# Altium footprint library AMP Footprints.PcbLib: 903 footprints (part 26 of 58)
Each footprint in its own frame and in the unit in brackets; x right, y up, seen from the top. Pads: shape width x height; smd on the part's side, far side on the other; paste and mask are expansions set on the pad; w line width, h text height; cw(c..) or ccw(c..) is an arc to the next point about the centre after c.
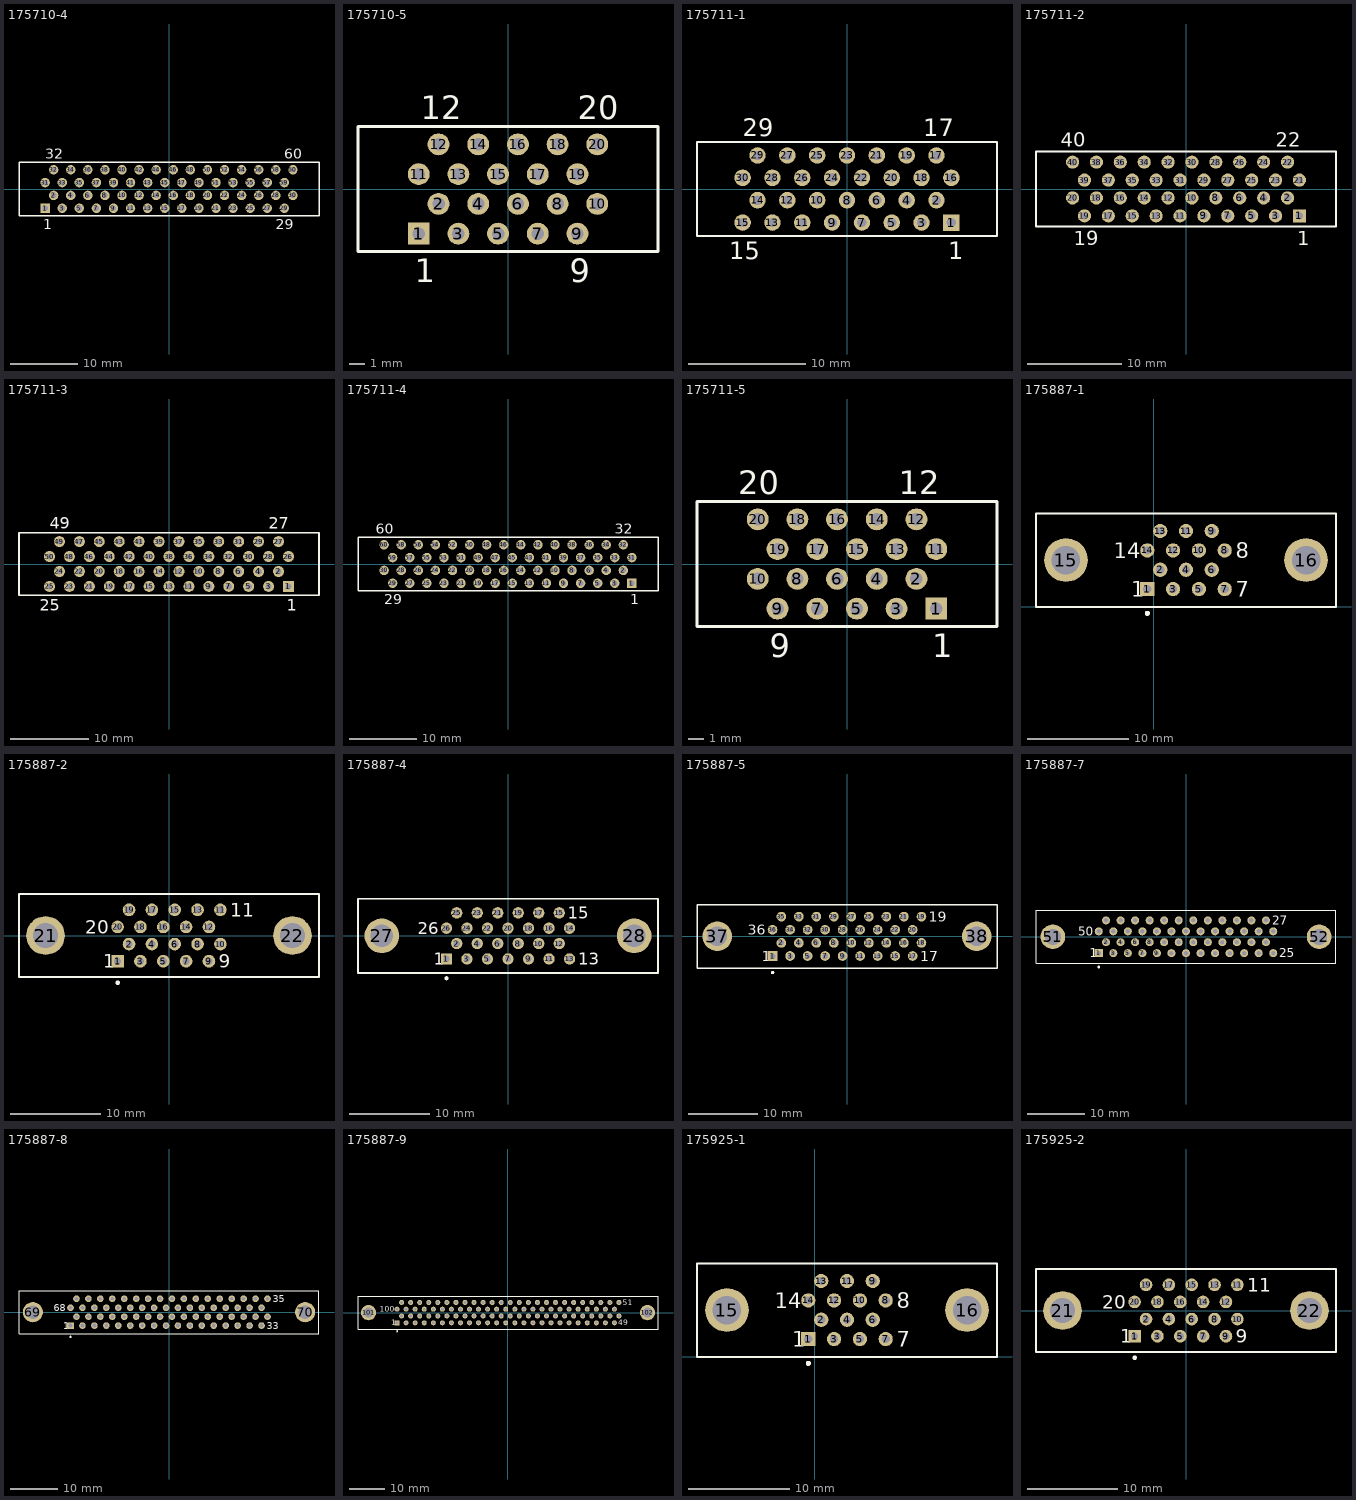
[diagram p25: the footprints below, top view; thin cyan lines are the x and y axes]

## 175710-4 [mm] "Connector; D Subminiature 050 Series; 60 Position; Vertical"
height 7.9
pads (60):
  rect 1.4x1.4 hole 0.8: 1(-18.415,-2.857)
  round 1.4 hole 0.8: 2(-17.145,-0.953) 3(-15.875,-2.857) 4(-14.605,-0.953) 5(-13.335,-2.857) 6(-12.065,-0.953) 7(-10.795,-2.857) 8(-9.525,-0.953) 9(-8.255,-2.857) 10(-6.985,-0.953) 11(-5.715,-2.857) 12(-4.445,-0.953) 13(-3.175,-2.857) 14(-1.905,-0.953) 15(-0.635,-2.857) 16(0.635,-0.953) 17(1.905,-2.857) 18(3.175,-0.953) 19(4.445,-2.857) 20(5.715,-0.953) 21(6.985,-2.857) 22(8.255,-0.953) 23(9.525,-2.857) 24(10.795,-0.953) 25(12.065,-2.857) 26(13.335,-0.953) 27(14.605,-2.857) 28(15.875,-0.953) 29(17.145,-2.857) 30(18.415,-0.953) 31(-18.415,0.953) 32(-17.145,2.857) 33(-15.875,0.953) 34(-14.605,2.857) 35(-13.335,0.953) 36(-12.065,2.857) 37(-10.795,0.953) 38(-9.525,2.857) 39(-8.255,0.953) 40(-6.985,2.857) 41(-5.715,0.953) 42(-4.445,2.857) 43(-3.175,0.953) 44(-1.905,2.857) 45(-0.635,0.953) 46(0.635,2.857) 47(1.905,0.953) 48(3.175,2.857) 49(4.445,0.953) 50(5.715,2.857) 51(6.985,0.953) 52(8.255,2.857) 53(9.525,0.953) 54(10.795,2.857) 55(12.065,0.953) 56(13.335,2.857) 57(14.605,0.953) 58(15.875,2.857) 59(17.145,0.953) 60(18.415,2.857)
Top Overlay:
  lines w0.2: -22.3,-4 22.3,-4 22.3,4 -22.3,4 -22.3,-4
  text "60" at 17.165,4.475 h1.5
  text "32" at -18.395,4.475 h1.5
  text "29" at 15.895,-5.975 h1.5
  text "1" at -18.665,-5.975 h1.5

## 175710-5 [mm] "Connector; D Subminiature 050 Series; 20 Position; Vertical"
height 7.9
pads (20):
  rect 1.4x1.4 hole 0.8: 1(-5.715,-2.857)
  round 1.4 hole 0.8: 2(-4.445,-0.953) 3(-3.175,-2.857) 4(-1.905,-0.953) 5(-0.635,-2.857) 6(0.635,-0.953) 7(1.905,-2.857) 8(3.175,-0.953) 9(4.445,-2.857) 10(5.715,-0.953) 11(-5.715,0.953) 12(-4.445,2.857) 13(-3.175,0.953) 14(-1.905,2.857) 15(-0.635,0.953) 16(0.635,2.857) 17(1.905,0.953) 18(3.175,2.857) 19(4.445,0.953) 20(5.715,2.857)
Top Overlay:
  lines w0.2: -9.6,-4 -9.6,4 9.6,4 9.6,-4 -9.6,-4
  text "1" at -5.965,-5.975 h1.5
  text "9" at 3.945,-5.975 h1.5
  text "12" at -5.57,4.475 h1.5
  text "20" at 4.465,4.475 h1.5

## 175711-1 [mm] "Connector; D Subminiature 050 Series; 30 Position; Vertical"
height 9.5
pads (30):
  rect 1.4x1.4 hole 0.8: 1(8.89,-2.857)
  round 1.4 hole 0.8: 2(7.62,-0.953) 3(6.35,-2.857) 4(5.08,-0.953) 5(3.81,-2.857) 6(2.54,-0.953) 7(1.27,-2.857) 8(0,-0.953) 9(-1.27,-2.857) 10(-2.54,-0.953) 11(-3.81,-2.857) 12(-5.08,-0.953) 13(-6.35,-2.857) 14(-7.62,-0.953) 15(-8.89,-2.857) 16(8.89,0.953) 17(7.62,2.857) 18(6.35,0.953) 19(5.08,2.857) 20(3.81,0.953) 21(2.54,2.857) 22(1.27,0.953) 23(0,2.857) 24(-1.27,0.953) 25(-2.54,2.857) 26(-3.81,0.953) 27(-5.08,2.857) 28(-6.35,0.953) 29(-7.62,2.857) 30(-8.89,0.953)
Top Overlay:
  lines w0.2: -12.775,-4 -12.775,4 12.775,4 12.775,-4 -12.775,-4
  text "1" at 8.64,-5.975 h1.5
  text "15" at -10.015,-5.975 h1.5
  text "17" at 6.495,4.475 h1.5
  text "29" at -8.87,4.475 h1.5

## 175711-2 [mm] "Connector; D Subminiature 050 Series; 40 Position; Vertical"
height 9.5
pads (40):
  rect 1.4x1.4 hole 0.8: 1(12.065,-2.857)
  round 1.4 hole 0.8: 2(10.795,-0.953) 3(9.525,-2.857) 4(8.255,-0.953) 5(6.985,-2.857) 6(5.715,-0.953) 7(4.445,-2.857) 8(3.175,-0.953) 9(1.905,-2.857) 10(0.635,-0.953) 11(-0.635,-2.857) 12(-1.905,-0.953) 13(-3.175,-2.857) 14(-4.445,-0.953) 15(-5.715,-2.857) 16(-6.985,-0.953) 17(-8.255,-2.857) 18(-9.525,-0.953) 19(-10.795,-2.857) 20(-12.065,-0.953) 21(12.065,0.953) 22(10.795,2.857) 23(9.525,0.953) 24(8.255,2.857) 25(6.985,0.953) 26(5.715,2.857) 27(4.445,0.953) 28(3.175,2.857) 29(1.905,0.953) 30(0.635,2.857) 31(-0.635,0.953) 32(-1.905,2.857) 33(-3.175,0.953) 34(-4.445,2.857) 35(-5.715,0.953) 36(-6.985,2.857) 37(-8.255,0.953) 38(-9.525,2.857) 39(-10.795,0.953) 40(-12.065,2.857)
Top Overlay:
  lines w0.2: -15.95,-4 15.95,-4 15.95,4 -15.95,4 -15.95,-4
  text "22" at 9.545,4.475 h1.5
  text "40" at -13.315,4.475 h1.5
  text "19" at -11.92,-5.975 h1.5
  text "1" at 11.815,-5.975 h1.5

## 175711-3 [mm] "Connector; D Subminiature 050 Series; 50 Position; Vertical"
height 9.5
pads (50):
  rect 1.4x1.4 hole 0.8: 1(15.24,-2.857)
  round 1.4 hole 0.8: 2(13.97,-0.953) 3(12.7,-2.857) 4(11.43,-0.953) 5(10.16,-2.857) 6(8.89,-0.953) 7(7.62,-2.857) 8(6.35,-0.953) 9(5.08,-2.857) 10(3.81,-0.953) 11(2.54,-2.857) 12(1.27,-0.953) 13(0,-2.857) 14(-1.27,-0.953) 15(-2.54,-2.857) 16(-3.81,-0.953) 17(-5.08,-2.857) 18(-6.35,-0.953) 19(-7.62,-2.857) 20(-8.89,-0.953) 21(-10.16,-2.857) 22(-11.43,-0.953) 23(-12.7,-2.857) 24(-13.97,-0.953) 25(-15.24,-2.857) 26(15.24,0.953) 27(13.97,2.857) 28(12.7,0.953) 29(11.43,2.857) 30(10.16,0.953) 31(8.89,2.857) 32(7.62,0.953) 33(6.35,2.857) 34(5.08,0.953) 35(3.81,2.857) 36(2.54,0.953) 37(1.27,2.857) 38(0,0.953) 39(-1.27,2.857) 40(-2.54,0.953) 41(-3.81,2.857) 42(-5.08,0.953) 43(-6.35,2.857) 44(-7.62,0.953) 45(-8.89,2.857) 46(-10.16,0.953) 47(-11.43,2.857) 48(-12.7,0.953) 49(-13.97,2.857) 50(-15.24,0.953)
Top Overlay:
  lines w0.2: -19.13,-4 19.13,-4 19.13,4 -19.13,4 -19.13,-4
  text "27" at 12.72,4.475 h1.5
  text "49" at -15.22,4.475 h1.5
  text "25" at -16.49,-5.975 h1.5
  text "1" at 14.99,-5.975 h1.5

## 175711-4 [mm] "Connector; D Subminiature 050 Series; 60 Position; Vertical"
height 9.5
pads (60):
  rect 1.4x1.4 hole 0.8: 1(18.415,-2.857)
  round 1.4 hole 0.8: 2(17.145,-0.953) 3(15.875,-2.857) 4(14.605,-0.953) 5(13.335,-2.857) 6(12.065,-0.953) 7(10.795,-2.857) 8(9.525,-0.953) 9(8.255,-2.857) 10(6.985,-0.953) 11(5.715,-2.857) 12(4.445,-0.953) 13(3.175,-2.857) 14(1.905,-0.953) 15(0.635,-2.857) 16(-0.635,-0.953) 17(-1.905,-2.857) 18(-3.175,-0.953) 19(-4.445,-2.857) 20(-5.715,-0.953) 21(-6.985,-2.857) 22(-8.255,-0.953) 23(-9.525,-2.857) 24(-10.795,-0.953) 25(-12.065,-2.857) 26(-13.335,-0.953) 27(-14.605,-2.857) 28(-15.875,-0.953) 29(-17.145,-2.857) 30(-18.415,-0.953) 31(18.415,0.953) 32(17.145,2.857) 33(15.875,0.953) 34(14.605,2.857) 35(13.335,0.953) 36(12.065,2.857) 37(10.795,0.953) 38(9.525,2.857) 39(8.255,0.953) 40(6.985,2.857) 41(5.715,0.953) 42(4.445,2.857) 43(3.175,0.953) 44(1.905,2.857) 45(0.635,0.953) 46(-0.635,2.857) 47(-1.905,0.953) 48(-3.175,2.857) 49(-4.445,0.953) 50(-5.715,2.857) 51(-6.985,0.953) 52(-8.255,2.857) 53(-9.525,0.953) 54(-10.795,2.857) 55(-12.065,0.953) 56(-13.335,2.857) 57(-14.605,0.953) 58(-15.875,2.857) 59(-17.145,0.953) 60(-18.415,2.857)
Top Overlay:
  lines w0.2: -22.3,-4 -22.3,4 22.3,4 22.3,-4 -22.3,-4
  text "32" at 15.895,4.475 h1.5
  text "29" at -18.395,-5.975 h1.5
  text "1" at 18.165,-5.975 h1.5
  text "60" at -19.665,4.475 h1.5

## 175711-5 [mm] "Connector; D Subminiature 050 Series; 20 Position; Vertical"
height 9.5
pads (20):
  rect 1.4x1.4 hole 0.8: 1(5.715,-2.857)
  round 1.4 hole 0.8: 2(4.445,-0.953) 3(3.175,-2.857) 4(1.905,-0.953) 5(0.635,-2.857) 6(-0.635,-0.953) 7(-1.905,-2.857) 8(-3.175,-0.953) 9(-4.445,-2.857) 10(-5.715,-0.953) 11(5.715,0.953) 12(4.445,2.857) 13(3.175,0.953) 14(1.905,2.857) 15(0.635,0.953) 16(-0.635,2.857) 17(-1.905,0.953) 18(-3.175,2.857) 19(-4.445,0.953) 20(-5.715,2.857)
Top Overlay:
  lines w0.2: -9.6,-4 -9.6,4 9.6,4 9.6,-4 -9.6,-4
  text "9" at -4.945,-5.975 h1.5
  text "1" at 5.465,-5.975 h1.5
  text "12" at 3.32,4.475 h1.5
  text "20" at -6.965,4.475 h1.5

## 175887-1 [mm] "Connector; CHAMP Miniature Ribbon 050 Series II; 14 Position; Vertical"
height 11.1
pads (16):
  rect 1.4x1.4 hole 0.8: 1(-0.633,1.743)
  round 1.4 hole 0.8: 2(0.637,3.648) 3(1.907,1.743) 4(3.177,3.648) 5(4.447,1.743) 6(5.717,3.648) 7(6.987,1.743) 8(6.987,5.553) 9(5.717,7.458) 10(4.447,5.553) 11(3.177,7.458) 12(1.907,5.553) 13(0.637,7.458) 14(-0.633,5.553)
  round 4.3 hole 2.8: 15(-8.643,4.6) 16(14.997,4.6)
Top Overlay:
  circle w0.25: c-0.633,-0.65 r0.125
  lines w0.2: -11.593,0 -11.593,9.2 17.947,9.2 17.947,0 -11.593,0
  text "8" at 8.062,4.802 h1.5
  text "14" at -3.958,4.802 h1.5
  text "7" at 8.062,0.992 h1.5
  text "1" at -2.208,0.992 h1.5

## 175887-2 [mm] "Connector; CHAMP Miniature Ribbon 050 Series II; 20 Position; Vertical"
height 11.1
pads (22):
  rect 1.4x1.4 hole 0.8: 1(-5.715,-2.857)
  round 1.4 hole 0.8: 2(-4.445,-0.953) 3(-3.175,-2.857) 4(-1.905,-0.953) 5(-0.635,-2.857) 6(0.635,-0.953) 7(1.905,-2.857) 8(3.175,-0.953) 9(4.445,-2.857) 10(5.715,-0.953) 11(5.715,2.857) 12(4.445,0.953) 13(3.175,2.857) 14(1.905,0.953) 15(0.635,2.857) 16(-0.635,0.953) 17(-1.905,2.857) 18(-3.175,0.953) 19(-4.445,2.857) 20(-5.715,0.953)
  round 4.3 hole 2.8: 21(-13.725,0) 22(13.725,0)
Top Overlay:
  circle w0.25: c-5.715,-5.25 r0.125
  lines w0.2: -16.675,-4.6 -16.675,4.6 16.675,4.6 16.675,-4.6 -16.675,-4.6
  text "1" at -7.29,-3.608 h1.5
  text "11" at 6.79,2.107 h1.5
  text "20" at -9.29,0.202 h1.5
  text "9" at 5.52,-3.608 h1.5

## 175887-4 [mm] "Connector; CHAMP Miniature Ribbon 050 Series II; 26 Position; Vertical"
height 11.1
pads (28):
  rect 1.4x1.4 hole 0.8: 1(-7.62,-2.857)
  round 1.4 hole 0.8: 2(-6.35,-0.953) 3(-5.08,-2.857) 4(-3.81,-0.953) 5(-2.54,-2.857) 6(-1.27,-0.953) 7(0,-2.857) 8(1.27,-0.953) 9(2.54,-2.857) 10(3.81,-0.953) 11(5.08,-2.857) 12(6.35,-0.953) 13(7.62,-2.857) 14(7.62,0.953) 15(6.35,2.857) 16(5.08,0.953) 17(3.81,2.857) 18(2.54,0.953) 19(1.27,2.857) 20(0,0.953) 21(-1.27,2.857) 22(-2.54,0.953) 23(-3.81,2.857) 24(-5.08,0.953) 25(-6.35,2.857) 26(-7.62,0.953)
  round 4.3 hole 2.8: 27(-15.63,0) 28(15.63,0)
Top Overlay:
  circle w0.25: c-7.62,-5.25 r0.125
  lines w0.2: -18.58,-4.6 -18.58,4.6 18.58,4.6 18.58,-4.6 -18.58,-4.6
  text "1" at -9.195,-3.608 h1.5
  text "13" at 8.695,-3.608 h1.5
  text "26" at -11.195,0.202 h1.5
  text "15" at 7.425,2.107 h1.5

## 175887-5 [mm] "Connector; CHAMP Miniature Ribbon 050 Series II; 36 Position; Vertical"
height 11.1
pads (38):
  rect 1.4x1.4 hole 0.8: 1(-10.795,-2.857)
  round 1.4 hole 0.8: 2(-9.525,-0.953) 3(-8.255,-2.857) 4(-6.985,-0.953) 5(-5.715,-2.857) 6(-4.445,-0.953) 7(-3.175,-2.857) 8(-1.905,-0.953) 9(-0.635,-2.857) 10(0.635,-0.953) 11(1.905,-2.857) 12(3.175,-0.953) 13(4.445,-2.857) 14(5.715,-0.953) 15(6.985,-2.857) 16(8.255,-0.953) 17(9.525,-2.857) 18(10.795,-0.953) 19(10.795,2.857) 20(9.525,0.953) 21(8.255,2.857) 22(6.985,0.953) 23(5.715,2.857) 24(4.445,0.953) 25(3.175,2.857) 26(1.905,0.953) 27(0.635,2.857) 28(-0.635,0.953) 29(-1.905,2.857) 30(-3.175,0.953) 31(-4.445,2.857) 32(-5.715,0.953) 33(-6.985,2.857) 34(-8.255,0.953) 35(-9.525,2.857) 36(-10.795,0.953)
  round 4.3 hole 2.8: 37(-18.805,0) 38(18.805,0)
Top Overlay:
  circle w0.25: c-10.795,-5.25 r0.125
  lines w0.2: -21.755,-4.6 21.755,-4.6 21.755,4.6 -21.755,4.6 -21.755,-4.6
  text "19" at 11.87,2.107 h1.5
  text "36" at -14.37,0.202 h1.5
  text "17" at 10.6,-3.608 h1.5
  text "1" at -12.37,-3.608 h1.5

## 175887-7 [mm] "Connector; CHAMP Miniature Ribbon 050 Series II; 50 Position; Vertical"
height 11.1
pads (52):
  rect 1.4x1.4 hole 0.8: 1(-15.24,-2.857)
  round 1.4 hole 0.8: 2(-13.97,-0.953) 3(-12.7,-2.857) 4(-11.43,-0.953) 5(-10.16,-2.857) 6(-8.89,-0.953) 7(-7.62,-2.857) 8(-6.35,-0.953) 9(-5.08,-2.857) 10(-3.81,-0.953) 11(-2.54,-2.857) 12(-1.27,-0.953) 13(0,-2.857) 14(1.27,-0.953) 15(2.54,-2.857) 16(3.81,-0.953) 17(5.08,-2.857) 18(6.35,-0.953) 19(7.62,-2.857) 20(8.89,-0.953) 21(10.16,-2.857) 22(11.43,-0.953) 23(12.7,-2.857) 24(13.97,-0.953) 25(15.24,-2.857) 26(15.24,0.953) 27(13.97,2.857) 28(12.7,0.953) 29(11.43,2.857) 30(10.16,0.953) 31(8.89,2.857) 32(7.62,0.953) 33(6.35,2.857) 34(5.08,0.953) 35(3.81,2.857) 36(2.54,0.953) 37(1.27,2.857) 38(0,0.953) 39(-1.27,2.857) 40(-2.54,0.953) 41(-3.81,2.857) 42(-5.08,0.953) 43(-6.35,2.857) 44(-7.62,0.953) 45(-8.89,2.857) 46(-10.16,0.953) 47(-11.43,2.857) 48(-12.7,0.953) 49(-13.97,2.857) 50(-15.24,0.953)
  round 4.3 hole 2.8: 51(-23.25,0) 52(23.25,0)
Top Overlay:
  circle w0.25: c-15.24,-5.25 r0.125
  lines w0.2: -26.2,-4.6 26.2,-4.6 26.2,4.6 -26.2,4.6 -26.2,-4.6
  text "25" at 16.315,-3.608 h1.5
  text "50" at -18.815,0.202 h1.5
  text "27" at 15.045,2.107 h1.5
  text "1" at -16.815,-3.608 h1.5

## 175887-8 [mm] "Connector; CHAMP Miniature Ribbon 050 Series II; 68 Position; Vertical"
height 11.1
pads (70):
  rect 1.4x1.4 hole 0.8: 1(-20.955,-2.857)
  round 1.4 hole 0.8: 2(-19.685,-0.953) 3(-18.415,-2.857) 4(-17.145,-0.953) 5(-15.875,-2.857) 6(-14.605,-0.953) 7(-13.335,-2.857) 8(-12.065,-0.953) 9(-10.795,-2.857) 10(-9.525,-0.953) 11(-8.255,-2.857) 12(-6.985,-0.953) 13(-5.715,-2.857) 14(-4.445,-0.953) 15(-3.175,-2.857) 16(-1.905,-0.953) 17(-0.635,-2.857) 18(0.635,-0.953) 19(1.905,-2.857) 20(3.175,-0.953) 21(4.445,-2.857) 22(5.715,-0.953) 23(6.985,-2.857) 24(8.255,-0.953) 25(9.525,-2.857) 26(10.795,-0.953) 27(12.065,-2.857) 28(13.335,-0.953) 29(14.605,-2.857) 30(15.875,-0.953) 31(17.145,-2.857) 32(18.415,-0.953) 33(19.685,-2.857) 34(20.955,-0.953) 35(20.955,2.857) 36(19.685,0.953) 37(18.415,2.857) 38(17.145,0.953) 39(15.875,2.857) 40(14.605,0.953) 41(13.335,2.857) 42(12.065,0.953) 43(10.795,2.857) 44(9.525,0.953) 45(8.255,2.857) 46(6.985,0.953) 47(5.715,2.857) 48(4.445,0.953) 49(3.175,2.857) 50(1.905,0.953) 51(0.635,2.857) 52(-0.635,0.953) 53(-1.905,2.857) 54(-3.175,0.953) 55(-4.445,2.857) 56(-5.715,0.953) 57(-6.985,2.857) 58(-8.255,0.953) 59(-9.525,2.857) 60(-10.795,0.953) 61(-12.065,2.857) 62(-13.335,0.953) 63(-14.605,2.857) 64(-15.875,0.953) 65(-17.145,2.857) 66(-18.415,0.953) 67(-19.685,2.857) 68(-20.955,0.953)
  round 4.3 hole 2.8: 69(-28.965,0) 70(28.965,0)
Top Overlay:
  circle w0.25: c-20.955,-5.25 r0.125
  lines w0.2: -31.915,-4.6 31.915,-4.6 31.915,4.6 -31.915,4.6 -31.915,-4.6
  text "1" at -22.53,-3.608 h1.5
  text "33" at 20.76,-3.608 h1.5
  text "68" at -24.53,0.202 h1.5
  text "35" at 22.03,2.107 h1.5

## 175887-9 [mm] "Connector; CHAMP Miniature Ribbon 050 Series II; 100 Position; Vertical"
height 11.1
pads (102):
  rect 1.4x1.4 hole 0.8: 1(-31.115,-2.857)
  round 1.4 hole 0.8: 2(-29.845,-0.953) 3(-28.575,-2.857) 4(-27.305,-0.953) 5(-26.035,-2.857) 6(-24.765,-0.953) 7(-23.495,-2.857) 8(-22.225,-0.953) 9(-20.955,-2.857) 10(-19.685,-0.953) 11(-18.415,-2.857) 12(-17.145,-0.953) 13(-15.875,-2.857) 14(-14.605,-0.953) 15(-13.335,-2.857) 16(-12.065,-0.953) 17(-10.795,-2.857) 18(-9.525,-0.953) 19(-8.255,-2.857) 20(-6.985,-0.953) 21(-5.715,-2.857) 22(-4.445,-0.953) 23(-3.175,-2.857) 24(-1.905,-0.953) 25(-0.635,-2.857) 26(0.635,-0.953) 27(1.905,-2.857) 28(3.175,-0.953) 29(4.445,-2.857) 30(5.715,-0.953) 31(6.985,-2.857) 32(8.255,-0.953) 33(9.525,-2.857) 34(10.795,-0.953) 35(12.065,-2.857) 36(13.335,-0.953) 37(14.605,-2.857) 38(15.875,-0.953) 39(17.145,-2.857) 40(18.415,-0.953) 41(19.685,-2.857) 42(20.955,-0.953) 43(22.225,-2.857) 44(23.495,-0.953) 45(24.765,-2.857) 46(26.035,-0.953) 47(27.305,-2.857) 48(28.575,-0.953) 49(29.845,-2.857) 50(31.115,-0.953) 51(31.115,2.857) 52(29.845,0.953) 53(28.575,2.857) 54(27.305,0.953) 55(26.035,2.857) 56(24.765,0.953) 57(23.495,2.857) 58(22.225,0.953) 59(20.955,2.857) 60(19.685,0.953) 61(18.415,2.857) 62(17.145,0.953) 63(15.875,2.857) 64(14.605,0.953) 65(13.335,2.857) 66(12.065,0.953) 67(10.795,2.857) 68(9.525,0.953) 69(8.255,2.857) 70(6.985,0.953) 71(5.715,2.857) 72(4.445,0.953) 73(3.175,2.857) 74(1.905,0.953) 75(0.635,2.857) 76(-0.635,0.953) 77(-1.905,2.857) 78(-3.175,0.953) 79(-4.445,2.857) 80(-5.715,0.953) 81(-6.985,2.857) 82(-8.255,0.953) 83(-9.525,2.857) 84(-10.795,0.953) 85(-12.065,2.857) 86(-13.335,0.953) 87(-14.605,2.857) 88(-15.875,0.953) 89(-17.145,2.857) 90(-18.415,0.953) 91(-19.685,2.857) 92(-20.955,0.953) 93(-22.225,2.857) 94(-23.495,0.953) 95(-24.765,2.857) 96(-26.035,0.953) 97(-27.305,2.857) 98(-28.575,0.953) 99(-29.845,2.857) 100(-31.115,0.953)
  round 4.3 hole 2.8: 101(-39.125,0) 102(39.125,0)
Top Overlay:
  circle w0.25: c-31.115,-5.25 r0.125
  lines w0.2: -42.075,-4.6 42.075,-4.6 42.075,4.6 -42.075,4.6 -42.075,-4.6
  text "51" at 32.19,2.107 h1.5
  text "49" at 30.92,-3.608 h1.5
  text "1" at -32.69,-3.608 h1.5
  text "100" at -35.94,0.202 h1.5

## 175925-1 [mm] "Connector; CHAMP Miniature Ribbon 050 Series II; 14 Position; Vertical"
height 11.1
pads (16):
  rect 1.4x1.4 hole 0.8: 1(-0.633,1.743)
  round 1.4 hole 0.8: 2(0.637,3.648) 3(1.907,1.743) 4(3.177,3.648) 5(4.447,1.743) 6(5.717,3.648) 7(6.987,1.743) 8(6.987,5.553) 9(5.717,7.458) 10(4.447,5.553) 11(3.177,7.458) 12(1.907,5.553) 13(0.637,7.458) 14(-0.633,5.553)
  round 4.3 hole 2.8: 15(-8.643,4.6) 16(14.997,4.6)
Top Overlay:
  circle w0.25: c-0.633,-0.65 r0.125
  lines w0.2: -11.593,0 -11.593,9.2 17.947,9.2 17.947,0 -11.593,0
  text "8" at 8.062,4.802 h1.5
  text "14" at -3.958,4.802 h1.5
  text "7" at 8.062,0.992 h1.5
  text "1" at -2.208,0.992 h1.5

## 175925-2 [mm] "Connector; CHAMP Miniature Ribbon 050 Series II; 20 Position; Vertical"
height 11.1
pads (22):
  rect 1.4x1.4 hole 0.8: 1(-5.715,-2.857)
  round 1.4 hole 0.8: 2(-4.445,-0.953) 3(-3.175,-2.857) 4(-1.905,-0.953) 5(-0.635,-2.857) 6(0.635,-0.953) 7(1.905,-2.857) 8(3.175,-0.953) 9(4.445,-2.857) 10(5.715,-0.953) 11(5.715,2.857) 12(4.445,0.953) 13(3.175,2.857) 14(1.905,0.953) 15(0.635,2.857) 16(-0.635,0.953) 17(-1.905,2.857) 18(-3.175,0.953) 19(-4.445,2.857) 20(-5.715,0.953)
  round 4.3 hole 2.8: 21(-13.725,0) 22(13.725,0)
Top Overlay:
  circle w0.25: c-5.715,-5.25 r0.125
  lines w0.2: -16.675,-4.6 -16.675,4.6 16.675,4.6 16.675,-4.6 -16.675,-4.6
  text "1" at -7.29,-3.608 h1.5
  text "11" at 6.79,2.107 h1.5
  text "20" at -9.29,0.202 h1.5
  text "9" at 5.52,-3.608 h1.5